# EAGLE library part MURATA_OKL-T/6-W12N-C (library user_ic)
ムラタの電源IC 秋月電子通商 M-06187 秋月電子の電源モジュールの中ではカタログスペック最強
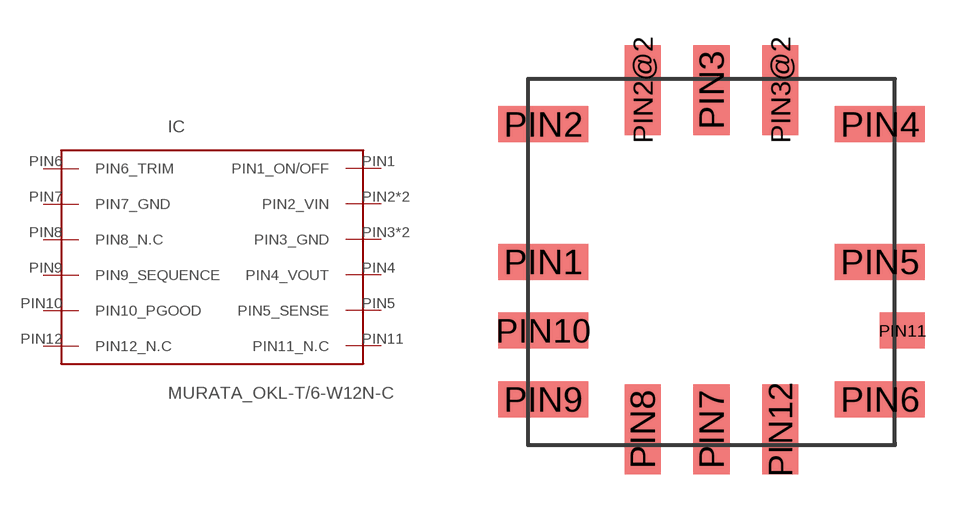
[diagram p7: symbol with the pads of OKL-T/6-W12N-C; footprint OKL-T/6-W12N-C]

Designator prefix IC

## MURATA_OKL-T/6-W12N-C  [OKL-T/6-W12N-C]
PIN1  PIN1_ON/OFF
PIN2  PIN2_VIN
PIN2@2  PIN2_VIN
PIN3  PIN3_GND
PIN3@2  PIN3_GND
PIN4  PIN4_VOUT
PIN5  PIN5_SENSE
PIN6  PIN6_TRIM
PIN7  PIN7_GND
PIN8  PIN8_N.C
PIN9  PIN9_SEQUENCE
PIN10  PIN10_PGOOD
PIN11  PIN11_N.C
PIN12  PIN12_N.C

## Footprint OKL-T/6-W12N-C (pad centres in mm)
smd 3 x 1.2: PIN1 -5.85,0.77; PIN2 -5.85,5.35; PIN4 5.35,5.35; PIN5 5.35,0.77; PIN6 5.35,-3.81; PIN9 -5.85,-3.81; PIN10 -5.85,-1.52
smd 1.2 x 3: PIN2@2 -2.54,6.49; PIN3 -0.25,6.49; PIN3@2 2.04,6.49; PIN7 -0.25,-4.81; PIN8 -2.54,-4.81; PIN12 2.04,-4.81
smd 1.5 x 1.2: PIN11 6.1,-1.52